# Altium footprint library National Semiconductor Footprints.PcbLib: 194 footprints (part 9 of 13)
Each footprint in its own frame and in the unit in brackets; x right, y up, seen from the top. Pads: shape width x height; smd on the part's side, far side on the other; paste and mask are expansions set on the pad; w line width, h text height; cw(c..) or ccw(c..) is an arc to the next point about the centre after c.
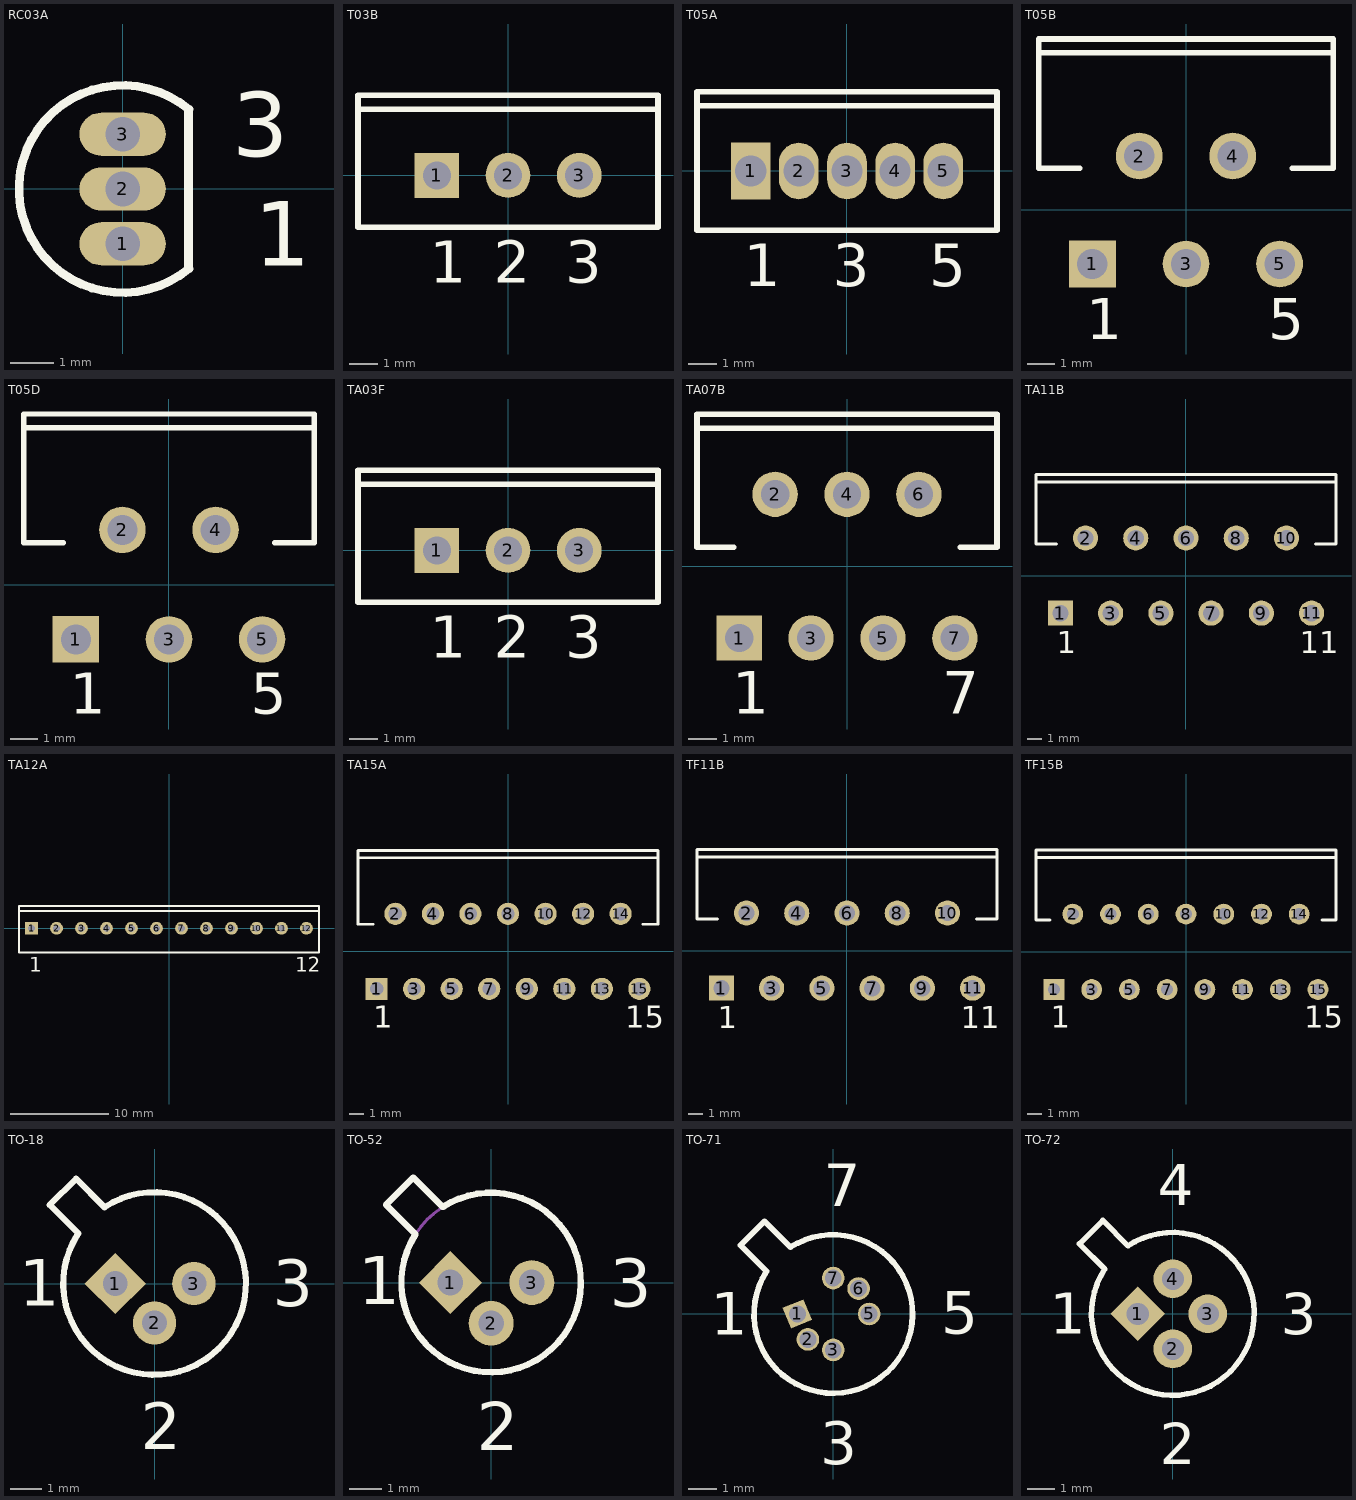
[diagram p8: the footprints below, top view; thin cyan lines are the x and y axes]

## RC03A [mm] "TO, Flat Index; 3 In-Line, Axial Leads; Body Dia. 4.6mm; Leads 0.48 x 0.41 mm (max)"
height 7.62
pads (3):
  oval 2x1 hole 0.8: 1(0,-1.27) 2(0,0) 3(0,1.27)
Top Overlay:
  lines w0.2: 1.526,-1.801 1.526,1.799 ; 1.536,-1.844 cw(c0,0) 1.536,1.844
  text "1" at 3.048,-1.778 h1.5
  text "3" at 2.54,0.762 h1.5

## T03B [mm] "TO, Thru-Hole, Vertical, Heatsink Mounted; 3 In-Line Leads; Pitch 2.54 mm"
height 19.4
pads (3):
  rect 1.6x1.6 hole 1: 1(-2.54,0)
  round 1.6 hole 1: 2(0,0) 3(2.54,0)
Top Overlay:
  lines w0.2: -5.35,2.35 5.35,2.35 ; -5.35,-1.85 -5.35,2.85 5.35,2.85 5.35,-1.85 -5.35,-1.85
  text "3" at 2.04,-3.825 h1.5
  text "1" at -2.79,-3.825 h1.5
  text "2" at -0.5,-3.825 h1.5

## T05A [mm] "TO, Thru-Hole, Vertical, Heatsink Mounted; 5 In-Line Leads; Pitch 1.70 mm"
height 15.3
pads (5):
  rect 1.4x2 hole 1.1: 1(-3.4,0)
  oval 1.4x2 hole 1.1: 2(-1.7,0) 3(0,0) 4(1.7,0) 5(3.4,0)
Top Overlay:
  lines w0.2: -5.3,2.3 5.3,2.3 ; -5.3,-2.1 -5.3,2.8 5.3,2.8 5.3,-2.1 -5.3,-2.1
  text "5" at 2.9,-4.075 h1.5
  text "3" at -0.5,-4.075 h1.5
  text "1" at -3.65,-4.075 h1.5

## T05B [mm] "TO, Thru-Hole, Vertical, Heatsink Mounted; 5 Bent Staggered Leads; Pitch 1.7mm"
height 21.1
pads (5):
  rect 1.7x1.7 hole 1.1: 1(-3.4,-1.96)
  round 1.7 hole 1.1: 2(-1.7,1.96) 3(0,-1.96) 4(1.7,1.96) 5(3.4,-1.96)
Top Overlay:
  lines w0.2: -5.35,5.71 5.35,5.71 ; -3.854,1.51 -5.35,1.51 -5.35,6.21 5.35,6.21 5.35,1.51 3.854,1.51
  text "5" at 2.98,-4.685 h1.5
  text "1" at -3.62,-4.685 h1.5

## T05D [mm] "TO, Thru-Hole, Vertical, Heatsink Mounted; 5 Bent Staggered Leads; Pitch 1.7 mm"
height 21.1
pads (5):
  rect 1.7x1.7 hole 1.1: 1(-3.4,-2)
  round 1.7 hole 1.1: 2(-1.7,2) 3(0,-2) 4(1.7,2) 5(3.4,-2)
Top Overlay:
  lines w0.2: -5.3,5.73 5.3,5.73 ; -3.854,1.53 -5.3,1.53 -5.3,6.23 5.3,6.23 5.3,1.53 3.854,1.53
  text "5" at 2.98,-4.725 h1.5
  text "1" at -3.62,-4.725 h1.5

## TA03F [mm] "TO, Thru-Hole, Vertical, Heatsink Mounted; 3 In-Line Leads; Pitch 2.54 mm"
height 19.4
pads (3):
  rect 1.6x1.6 hole 1: 1(-2.54,0)
  round 1.6 hole 1: 2(0,0) 3(2.54,0)
Top Overlay:
  lines w0.2: -5.35,2.35 5.35,2.35 ; -5.35,-1.85 -5.35,2.85 5.35,2.85 5.35,-1.85 -5.35,-1.85
  text "3" at 2.04,-3.825 h1.5
  text "1" at -2.79,-3.825 h1.5
  text "2" at -0.5,-3.825 h1.5

## TA07B [mm] "TO, Thru-Hole, Vertical, Heatsink Mounted; 7 Bent Staggered Leads; Pitch 1.27 mm"
height 21.1
pads (7):
  rect 1.6x1.6 hole 1: 1(-3.81,-2.54)
  round 1.6 hole 1: 2(-2.54,2.54) 3(-1.27,-2.54) 4(0,2.54) 5(1.27,-2.54) 6(2.54,2.54) 7(3.81,-2.54)
Top Overlay:
  lines w0.2: -5.3,4.87 5.3,4.87 ; -4,0.67 -5.3,0.67 -5.3,5.37 5.3,5.37 5.3,0.67 4,0.67
  text "1" at -4.06,-5.215 h1.5
  text "7" at 3.36,-5.215 h1.5

## TA11B [mm] "TO, Thru-Hole, Vertical, Heatsink Mounted; 11 Bent Staggered Leads; Pitch 1.7 mm"
height 21
pads (11):
  rect 1.7x1.7 hole 1.1: 1(-8.5,-2.54)
  round 1.7 hole 1.1: 2(-6.8,2.54) 3(-5.1,-2.54) 4(-3.4,2.54) 5(-1.7,-2.54) 6(0,2.54) 7(1.7,-2.54) 8(3.4,2.54) 9(5.1,-2.54) 10(6.8,2.54) 11(8.5,-2.54)
Top Overlay:
  lines w0.2: -10.15,6.34 10.15,6.34 ; -8.754,2.14 -10.15,2.14 -10.15,6.84 10.15,6.84 10.15,2.14 8.774,2.14
  text "11" at 7.71,-5.265 h1.5
  text "1" at -8.74,-5.265 h1.5

## TA12A [mm] "TO, Thru-Hole, Vertical, Heatsink Mounted; 12 In-Line Leads; Pitch 2.54 mm"
height 20.5
pads (12):
  rect 1.3x1.3 hole 0.7: 1(-13.97,0)
  round 1.3 hole 0.7: 2(-11.43,0) 3(-8.89,0) 4(-6.35,0) 5(-3.81,0) 6(-1.27,0) 7(1.27,0) 8(3.81,0) 9(6.35,0) 10(8.89,0) 11(11.43,0) 12(13.97,0)
Top Overlay:
  lines w0.2: -15.25,1.75 15.25,1.75 ; -15.25,-2.45 15.25,-2.45 15.25,2.25 -15.25,2.25 -15.25,-2.45
  text "1" at -14.22,-4.425 h1.5
  text "12" at 12.845,-4.425 h1.5

## TA15A [mm] "TO, Thru-Hole, Vertical, Heatsink Mounted; 15 Bent Staggered Leads; Pitch 1.27 mm"
height 2.9
pads (15):
  rect 1.5x1.5 hole 0.9: 1(-8.89,-2.54)
  round 1.5 hole 0.9: 2(-7.62,2.54) 3(-6.35,-2.54) 4(-5.08,2.54) 5(-3.81,-2.54) 6(-2.54,2.54) 7(-1.27,-2.54) 8(0,2.54) 9(1.27,-2.54) 10(2.54,2.54) 11(3.81,-2.54) 12(5.08,2.54) 13(6.35,-2.54) 14(7.62,2.54) 15(8.89,-2.54)
Top Overlay:
  lines w0.2: -10.15,6.33 10.05,6.33 ; -9.144,1.83 -10.15,1.83 -10.15,6.83 10.15,6.83 10.15,1.83 9.144,1.83
  text "1" at -9.12,-5.165 h1.5
  text "15" at 7.95,-5.165 h1.5

## TF11B [mm] "TO, Thru-Hole, Vertical, Heatsink Mounted; 11 Bent Staggered Leads; Pitch 1.7 mm"
height 23
pads (11):
  rect 1.7x1.7 hole 1.1: 1(-8.5,-2.54)
  round 1.7 hole 1.1: 2(-6.8,2.54) 3(-5.1,-2.54) 4(-3.4,2.54) 5(-1.7,-2.54) 6(0,2.54) 7(1.7,-2.54) 8(3.4,2.54) 9(5.1,-2.54) 10(6.8,2.54) 11(8.5,-2.54)
Top Overlay:
  lines w0.2: -10.15,6.34 10.15,6.34 ; -8.754,2.14 -10.15,2.14 -10.15,6.84 10.15,6.84 10.15,2.14 8.774,2.14
  text "11" at 7.71,-5.265 h1.5
  text "1" at -8.74,-5.265 h1.5

## TF15B [mm] "TO, Thru-Hole, Vertical, Heatsink Mounted; 15 Bent Staggered Leads; Pitch 1.27 mm"
height 23
pads (15):
  rect 1.4x1.4 hole 0.8: 1(-8.89,-2.54)
  round 1.4 hole 0.8: 2(-7.62,2.54) 3(-6.35,-2.54) 4(-5.08,2.54) 5(-3.81,-2.54) 6(-2.54,2.54) 7(-1.27,-2.54) 8(0,2.54) 9(1.27,-2.54) 10(2.54,2.54) 11(3.81,-2.54) 12(5.08,2.54) 13(6.35,-2.54) 14(7.62,2.54) 15(8.89,-2.54)
Top Overlay:
  lines w0.2: -10.1,6.34 10.1,6.34 ; -9.144,2.14 -10.1,2.14 -10.1,6.84 10.1,6.84 10.1,2.14 9.144,2.14
  text "15" at 7.95,-5.115 h1.5
  text "1" at -9.12,-5.115 h1.5

## TO-18 [mm] "Can; 3 Leads; Pin Circle Dia. 2.54 mm; Lead Dia. 0.48 mm (max)"
height 5.34
pads (3):
  rect 1.4x1.4 hole 0.8 rot 45: 1(-1.27,0)
  round 1.4 hole 0.8: 2(0,-1.27) 3(1.27,0)
Top Overlay:
  lines w0.2: -3.386,2.537 -2.467,1.618 ccw(c0,0) -1.618,2.467 -2.537,3.386 -3.386,2.537
  text "3" at 3.812,-0.742 h1.5
  text "2" at -0.443,-5.355 h1.5
  text "1" at -4.38,-0.719 h1.5

## TO-52 [mm] "Can; 3 Leads; Pin Circle Dia. 2.54 mm; Lead Dia. 0.48 mm (max)"
height 4.04
pads (3):
  rect 1.4x1.4 hole 0.8 rot 45: 1(-1.27,0)
  round 1.4 hole 0.8: 2(0,-1.27) 3(1.27,0)
Top Overlay:
  lines w0.2: -3.277,2.429 -2.358,1.51 ccw(c0,0) -1.51,2.358 -2.429,3.277 -3.277,2.429
  text "3" at 3.706,-0.751 h1.5
  text "2" at -0.442,-5.239 h1.5
  text "1" at -4.153,-0.68 h1.5
Mechanical 1:
  circle w0.1: c0,0 r2.8

## TO-71 [mm] "Can; 7 Leads (1 Absent); Pin Circle Dia. 2.54 mm; Lead Dia. 0.48 mm (max)"
height 5.34
pads (6):
  rect 0.8x0.8 hole 0.6 rot 22.5: 1(-1.27,0)
  round 0.8 hole 0.6: 2(-0.898,-0.898) 3(0,-1.27) 5(1.27,0) 6(0.898,0.898) 7(0,1.27)
Top Overlay:
  lines w0.2: -3.277,2.429 -2.358,1.51 ccw(c0,0) -1.51,2.358 -2.429,3.277 -3.277,2.429
  text "7" at -0.336,3.798 h1.5
  text "5" at 3.806,-0.692 h1.5
  text "3" at -0.465,-5.299 h1.5
  text "1" at -4.335,-0.727 h1.5

## TO-72 [mm] "Can; 4 Leads; Pin Circle Dia. 2.54 mm; Lead Dia. 0.48 mm (max)"
height 5.34
pads (4):
  rect 1.4x1.4 hole 0.8 rot 45: 1(-1.27,0)
  round 1.4 hole 0.8: 2(0,-1.27) 3(1.27,0) 4(0,1.27)
Top Overlay:
  lines w0.2: -3.386,2.537 -2.537,3.386 -1.618,2.467 cw(c0,0) -2.467,1.618 -3.386,2.537
  text "4" at -0.554,3.93 h1.5
  text "3" at 3.91,-0.743 h1.5
  text "2" at -0.468,-5.441 h1.5
  text "1" at -4.454,-0.719 h1.5